# Altium schematic symbol library 5023520510.SchLib: 1 symbol
Pins are listed as number, name and electrical type; pins without a type are passive.

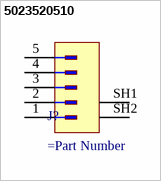
[diagram p0: symbol 5023520510]

## 5023520510
designator J?
=Description
pins: 1, 2, 3, 4, 5, SH1 SH, SH2 SH